# Altium schematic symbol library integrated_circuits-stm32.SchLib: 1 symbol
Pins are listed as number, name and electrical type; pins without a type are passive.

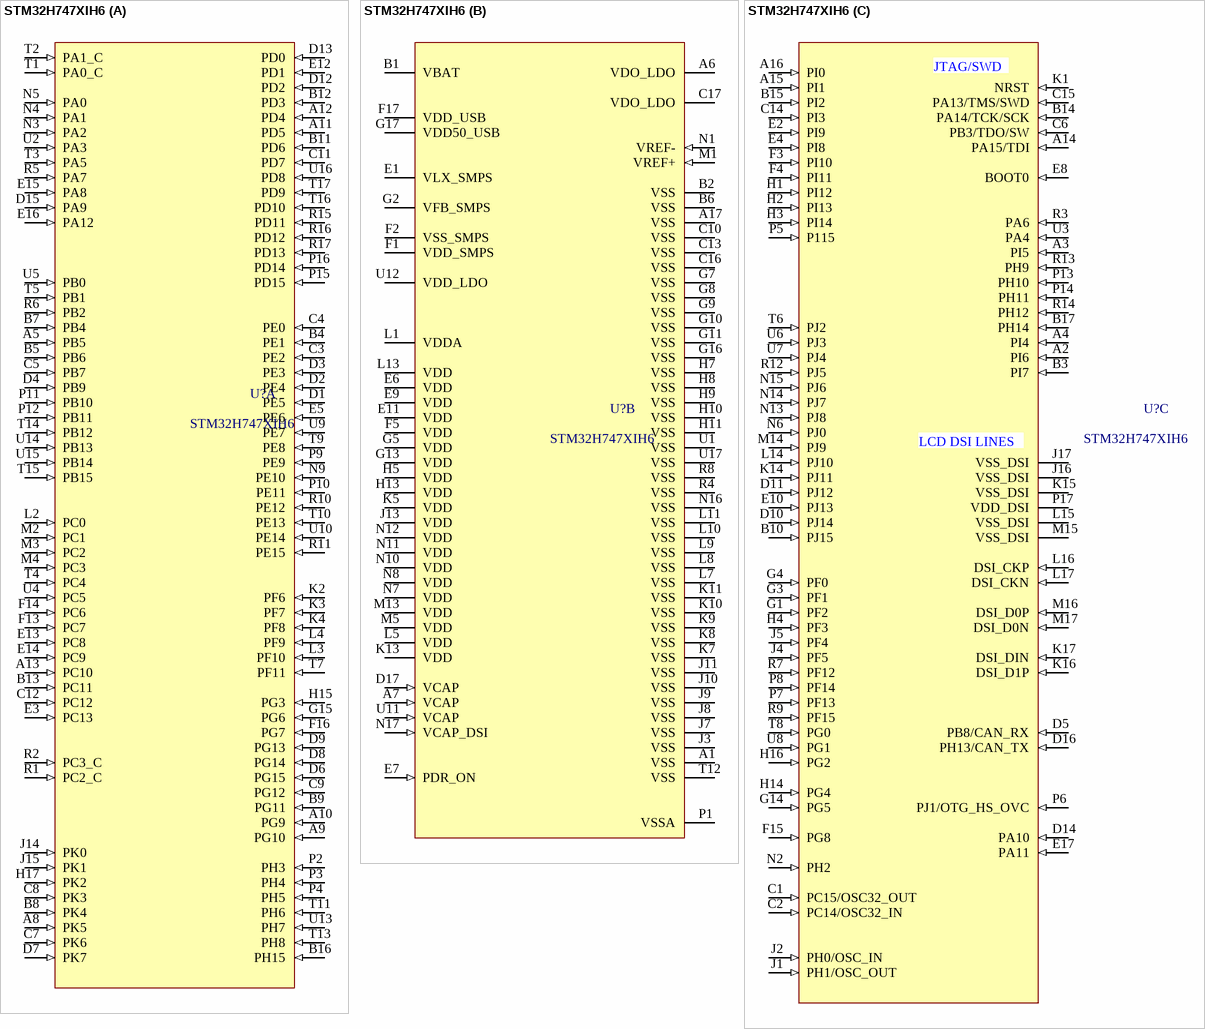
[diagram p0: symbol STM32H747XIH6]

## STM32H747XIH6
designator U?
footprint TFBGA-265_14mmX14mm_P0.8 - duplicate
part A pins: A5 PB5 (in), A8 PK5 (in), A9 PG10 (in), A10 PG9 (in), A11 PD5 (in), A12 PD4 (in), A13 PC10 (in), B4 PE1 (in), B5 PB6 (in), B7 PB4 (in), B8 PK4 (in), B9 PG11 (in), B11 PD6 (in), B12 PD3 (in), B13 PC11 (in), B16 PH15 (in), C3 PE2 (in), C4 PE0 (in), C5 PB7 (in), C7 PK6 (in), C8 PK3 (in), C9 PG12 (in), C11 PD7 (in), C12 PC12 (in), D1 PE5 (in), D2 PE4 (in), D3 PE3 (in), D4 PB9 (in), D6 PG15 (in), D7 PK7 (in), D8 PG14 (in), D9 PG13 (in), D12 PD2 (in), D13 PD0 (in), D15 PA9 (in), E3 PC13 (in), E5 PE6 (in), E12 PD1 (in), E13 PC8 (in), E14 PC9 (in), E15 PA8 (in), E16 PA12 (in), F13 PC7 (in), F14 PC6 (in), F16 PG7 (in), G15 PG6 (in), H15 PG3 (in), H17 PK2 (in), J14 PK0 (in), J15 PK1 (in), K2 PF6 (in), K3 PF7 (in), K4 PF8 (in), L2 PC0 (in), L3 PF10 (in), L4 PF9 (in), M2 PC1 (in), M3 PC2 (in), M4 PC3 (in), N3 PA2 (in), N4 PA1 (in), N5 PA0 (in), N9 PE10 (in), P2 PH3 (in), P3 PH4 (in), P4 PH5 (in), P9 PE9 (in), P10 PE11 (in), P11 PB10 (in), P12 PB11 (in), P15 PD15 (in), P16 PD14 (in), R1 PC2_C (in), R2 PC3_C (in), R5 PA7 (in), R6 PB2 (in), R10 PE12 (in), R11 PE15 (in), R15 PD11 (in), R16 PD12 (in), R17 PD13 (in), T1 PA0_C (in), T2 PA1_C (in), T3 PA5 (in), T4 PC4 (in), T5 PB1 (in), T7 PF11 (in), T9 PE8 (in), T10 PE13 (in), T11 PH6 (in), T13 PH8 (in), T14 PB12 (in), T15 PB15 (in), T16 PD10 (in), T17 PD9 (in), U2 PA3 (in), U4 PC5 (in), U5 PB0 (in), U9 PE7 (in), U10 PE14 (in), U13 PH7 (in), U14 PB13 (in), U15 PB14 (in), U16 PD8 (in)
part B pins: A1 VSS (power), A6 VDO_LDO (power), A7 VCAP (in), A17 VSS (power), B1 VBAT (power), B2 VSS (power), B6 VSS (power), C10 VSS (power), C13 VSS (power), C16 VSS (power), C17 VDO_LDO (power), D17 VCAP (in), E1 VLX_SMPS (power), E6 VDD (power), E7 PDR_ON (in), E9 VDD (power), E11 VDD (power), F1 VDD_SMPS (power), F2 VSS_SMPS (power), F5 VDD (power), F17 VDD_USB (power), G2 VFB_SMPS (power), G5 VDD (power), G7 VSS (power), G8 VSS (power), G9 VSS (power), G10 VSS (power), G11 VSS (power), G13 VDD (power), G16 VSS (power), G17 VDD50_USB (power), H5 VDD (power), H7 VSS (power), H8 VSS (power), H9 VSS (power), H10 VSS (power), H11 VSS (power), H13 VDD (power), J3 VSS (power), J7 VSS (power), J8 VSS (power), J9 VSS (power), J10 VSS (power), J11 VSS (power), J13 VDD (power), K5 VDD (power), K7 VSS (power), K8 VSS (power), K9 VSS (power), K10 VSS (power), K11 VSS (power), K13 VDD (power), L1 VDDA (power), L5 VDD (power), L7 VSS (power), L8 VSS (power), L9 VSS (power), L10 VSS (power), L11 VSS (power), L13 VDD (power), M1 VREF+ (in), M5 VDD (power), M13 VDD (power), N1 VREF- (in), N7 VDD (power), N8 VDD (power), N10 VDD (power), N11 VDD (power), N12 VDD (power), N16 VSS (power), N17 VCAP_DSI (in), P1 VSSA (power), R4 VSS (power), R8 VSS (power), T12 VSS (power), U1 VSS (power), U11 VCAP (in), U12 VDD_LDO (power), U17 VSS (power)
part C pins: A2 PI6 (in), A3 PI5 (in), A4 PI4 (in), A14 PA15/TDI (in), A15 PI1 (in), A16 PI0 (in), B3 PI7 (in), B10 PJ15 (in), B14 PA14/TCK/SCK (in), B15 PI2 (in), B17 PH14 (in), C1 PC15/OSC32_OUT (in), C2 PC14/OSC32_IN (in), C6 PB3/TDO/SW (in), C14 PI3 (in), C15 PA13/TMS/SWD (in), D5 PB8/CAN_RX (in), D10 PJ14 (in), D11 PJ12 (in), D14 PA10 (in), D16 PH13/CAN_TX (in), E2 PI9 (in), E4 PI8 (in), E8 BOOT0 (in), E10 PJ13 (in), E17 PA11 (in), F3 PI10 (in), F4 PI11 (in), F15 PG8 (in), G1 PF2 (in), G3 PF1 (in), G4 PF0 (in), G14 PG5 (in), H1 PI12 (in), H2 PI13 (in), H3 PI14 (in), H4 PF3 (in), H14 PG4 (in), H16 PG2 (in), J1 PH1/OSC_OUT (in), J2 PH0/OSC_IN (in), J4 PF5 (in), J5 PF4 (in), J16 VSS_DSI (power), J17 VSS_DSI (power), K1 NRST (in), K14 PJ11 (in), K15 VSS_DSI (power), K16 DSI_D1P (in), K17 DSI_DIN (in), L14 PJ10 (in), L15 VSS_DSI (power), L16 DSI_CKP (in), L17 DSI_CKN (in), M14 PJ9 (in), M15 VSS_DSI (power), M16 DSI_D0P (in), M17 DSI_D0N (in), N2 PH2 (in), N6 PJ0 (in), N13 PJ8 (in), N14 PJ7 (in), N15 PJ6 (in), P5 P115 (in), P6 PJ1/OTG_HS_OVC (in), P7 PF13 (in), P8 PF14 (in), P13 PH10 (in), P14 PH11 (in), P17 VDD_DSI (power), R3 PA6 (in), R7 PF12 (in), R9 PF15 (in), R12 PJ5 (in), R13 PH9 (in), R14 PH12 (in), T6 PJ2 (in), T8 PG0 (in), U3 PA4 (in), U6 PJ3 (in), U7 PJ4 (in), U8 PG1 (in)
part C text: JTAG/SWD /; LCD DSI LINES